# EAGLE library part TEENSY_4.0 (library TEENSY_4.0)
Teensy USB Board, Version 4.0 Source: Datasheet <https://www.pjrc.com/store/teensy40.html>
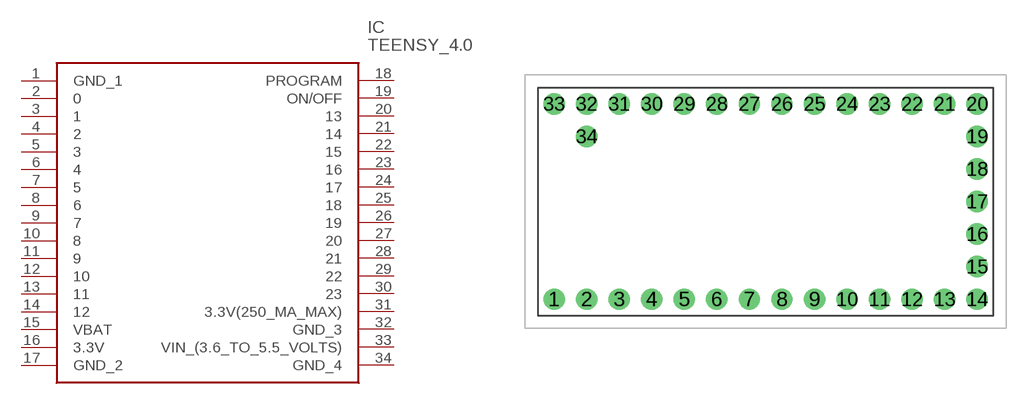
[diagram p0: symbol with the pads of TEENSY40; footprint TEENSY40]

Designator prefix IC

## TEENSY_4.0 (Description: Teensy USB Board, Version 4.0; Height: 4.64mm; Manufacturer_Name: Teensy; Manufacturer_Part_Number: TEENSY 4.0)  [TEENSY40]
1  GND_1
2  0
3  1
4  2
5  3
6  4
7  5
8  6
9  7
10  8
11  9
12  10
13  11
14  12
15  VBAT
16  3.3V
17  GND_2
18  PROGRAM
19  ON/OFF
20  13
21  14
22  15
23  16
24  17
25  18
26  19
27  20
28  21
29  22
30  23
31  3.3V(250_MA_MAX)
32  GND_3
33  VIN_(3.6_TO_5.5_VOLTS)
34  GND_4

## Footprint TEENSY40 (pad centres in mm)
TEENSY 4.0-4
drill 1.11 pad 1.665: 1 0,0; 2 2.54,0; 3 5.08,0; 4 7.62,0; 5 10.16,0; 6 12.7,0; 7 15.24,0; 8 17.78,0; 9 20.32,0; 10 22.86,0; 11 25.4,0; 12 27.94,0; 13 30.48,0; 14 33.02,0; 15 33.02,2.54; 16 33.02,5.08; 17 33.02,7.62; 18 33.02,10.16; 19 33.02,12.7; 20 33.02,15.24; 21 30.48,15.24; 22 27.94,15.24; 23 25.4,15.24; 24 22.86,15.24; 25 20.32,15.24; 26 17.78,15.24; 27 15.24,15.24; 28 12.7,15.24; 29 10.16,15.24; 30 7.62,15.24; 31 5.08,15.24; 32 2.54,15.24; 33 0,15.24; 34 2.54,12.7